# Altium schematic symbol library J0026D21BNL.Schlib: 1 symbol
Pins are listed as number, name and electrical type; pins without a type are passive.

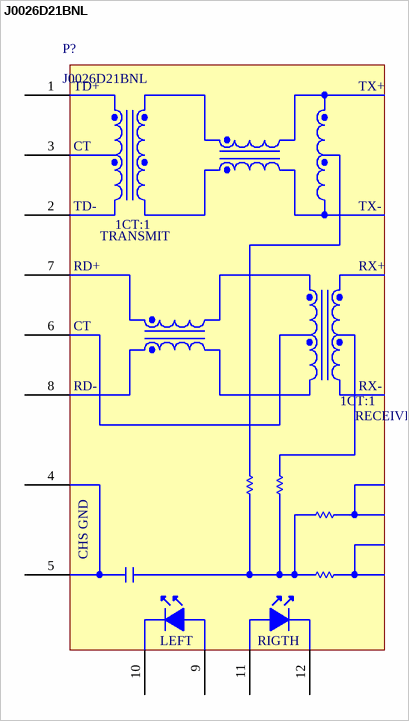
[diagram p0: symbol J0026D21BNL]

## J0026D21BNL
designator P?
CONN PULSEJACK 1PORT 10/100B-TX
pins: 1 TP+, 2 TP-, 3 CT, 4 CHS GND, 5 CHS GND, 6 CT, 7 RD+, 8 RD-, 9 AL, 10 CL, 11 CR, 12 AR
text: TD+; TX+; TD-; TX-; 1CT:1; TRANSMIT; RX+; RX-; RECEIVE; LEFT; RIGTH